# Altium schematic symbol library UWT1V221MNL1GS.SchLib: 1 symbol
Pins are listed as number, name and electrical type; pins without a type are passive.

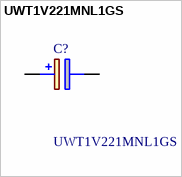
[diagram p0: symbol UWT1V221MNL1GS]

## UWT1V221MNL1GS
designator C?
ALUMINUM ELECTROLYTIC CAPACITORS; Manufacturer_Name: Nichicon; Geometry.Height: 10.8mm; Mouser Part Number: 647-UWT1V221MNL1S; Mouser Price/Stock: https://www.mouser.co.uk/ProductDetail/Nichicon/UWT1V221MNL1GS?qs=nG%2Fv56AVa5tGx14QDCPlyg%3D%3D; Manufacturer_Part_Number: UWT1V221MNL1GS; Datasheet Link: https://products.nichicon.co.jp/en/pdf/XJA043/e-uwt.pdf
footprint CAPAE830X1080N
pins: 1 +, 2 -